# Altium schematic symbol library pokey-switch-board.SchLib: 2 symbols
Pins are listed as number, name and electrical type; pins without a type are passive.

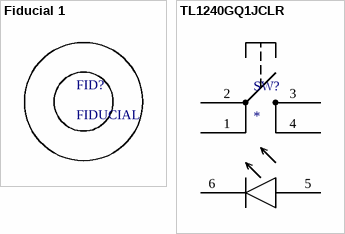
[diagram p0: symbols Fiducial 1 to TL1240GQ1JCLR]

## Fiducial 1
designator FID?, comment FIDUCIAL  (no BOM)
footprint FID (FIDUCIAL)

## TL1240GQ1JCLR
designator SW?
SWITCH TACTILE SPST-NO 0.05A 12V; Manufacturer: E-Switch; Manufacturer Part Number: TL1240GQ1JCLR; Switch Function: Off-Mom; Contact Rating @ Voltage: 0.05A @ 12VDC; Actuator Type: Square Button; Actuator Height off PCB, from Pins: 8.20mm; Actuator Orientation: Top Actuated; Outline: 6.00mm x 6.00mm; Illumination: Illuminated; Illumination Voltage (Nominal): 2.8 VDC; Illumination Type, Color: LED, Green; Operating Force: 160gf; Actuator Material: Polybutylene Terephthalate (PBT); Switch Travel: 0.25mm; Mechanical Life: 100,000 Cycles; Supplier 1: Digi-Key; RoHS: RoHS Compliant; Category: Switches; Stock 1: 2305; Pricing 1: 1=1.81, 10=1.745, 50=1.396, 100=1.3262, 250=1.29132, 500=1.2564, 1000=0.9772, 5000=0.9074 (USD); Packaging: Bulk; Circuit: SPST-NO; Mounting Type: Through Hole; Termination Style: PC Pin; Ingress Protection: -; Features: -; Operating Temperature: -20°C ~ 70°C; ComponentLink1URL: https://www.e-switch.com/system/asset/product_line/data_sheet/147/TL1240.pdf; ComponentLink1Description: https://www.e-switch.com/system/asset/product_line/data_sheet/147/TL1240.pdf; Supplier Part Number 1: EG4614-ND
footprint TL1240 (TL1240 illuminated tactile switch)
pins: 1, 2, 3, 4, 5, 6